# Altium schematic symbol library audio_amps.schlib: 2 symbols
Pins are listed as number, name and electrical type; pins without a type are passive.

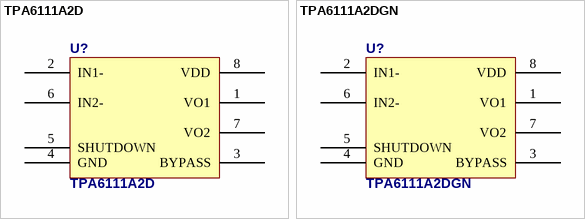
[diagram p0: symbols TPA6111A2D to TPA6111A2DGN]

## TPA6111A2D
designator U?
150-mW Stereo Audio Power Amplifier - SO8 Package
footprint SO8 (Small Outline; 8 Leads; Body Width 3.7 mm; Pitch 1.27 mm)
pins: 1 VO1 "Thermal Pad", 2 IN1- "Thermal Pad", 3 BYPASS "Thermal Pad", 4 GND "Thermal Pad", 5 SHUTDOWN "Thermal Pad", 6 IN2- "Thermal Pad", 7 VO2 "Thermal Pad", 8 VDD "Thermal Pad"

## TPA6111A2DGN
designator U?
150-mW Stereo Audio Power Amplifier - MSOP8 Package
footprint MSOP8
pins: 1 VO1 "Thermal Pad", 2 IN1- "Thermal Pad", 3 BYPASS "Thermal Pad", 4 GND "Thermal Pad", 5 SHUTDOWN "Thermal Pad", 6 IN2- "Thermal Pad", 7 VO2 "Thermal Pad", 8 VDD "Thermal Pad"